# Altium footprint library HT12E.PcbLib: 1 footprints
Each footprint in its own frame and in the unit in brackets; x right, y up, seen from the top. Pads: shape width x height; smd on the part's side, far side on the other; paste and mask are expansions set on the pad; w line width, h text height; cw(c..) or ccw(c..) is an arc to the next point about the centre after c.
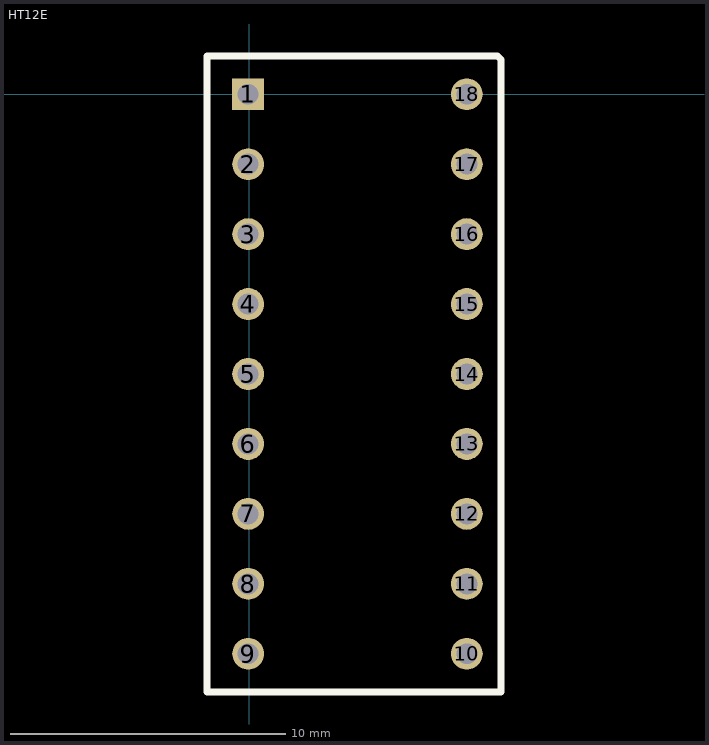
[diagram p0: the footprint, top view; thin cyan lines are the x and y axes]

## HT12E [mm] "HT12E"
pads (18):
  rect 1.16x1.16 hole 0.76: 1(-0.033,0)
  round 1.16 hole 0.76: 2(-0.033,-2.54) 3(-0.033,-5.08) 4(-0.033,-7.62) 5(-0.033,-10.16) 6(-0.033,-12.7) 7(-0.033,-15.24) 8(-0.033,-17.78) 9(-0.033,-20.32) 10(7.907,-20.32) 11(7.907,-17.78) 12(7.907,-15.24) 13(7.907,-12.7) 14(7.907,-10.16) 15(7.907,-7.62) 16(7.907,-5.08) 17(7.907,-2.54) 18(7.907,0)
Top Overlay:
  lines w0.254: -1.524,-21.717 -1.524,1.397 9.017,1.397 9.144,1.27 9.144,-21.717 -1.524,-21.717